# Altium footprint library station_de_charge_PcbLib.PcbLib: 26 footprints (part 2 of 2)
Each footprint in its own frame and in the unit in brackets; x right, y up, seen from the top. Pads: shape width x height; smd on the part's side, far side on the other; paste and mask are expansions set on the pad; w line width, h text height; cw(c..) or ccw(c..) is an arc to the next point about the centre after c.
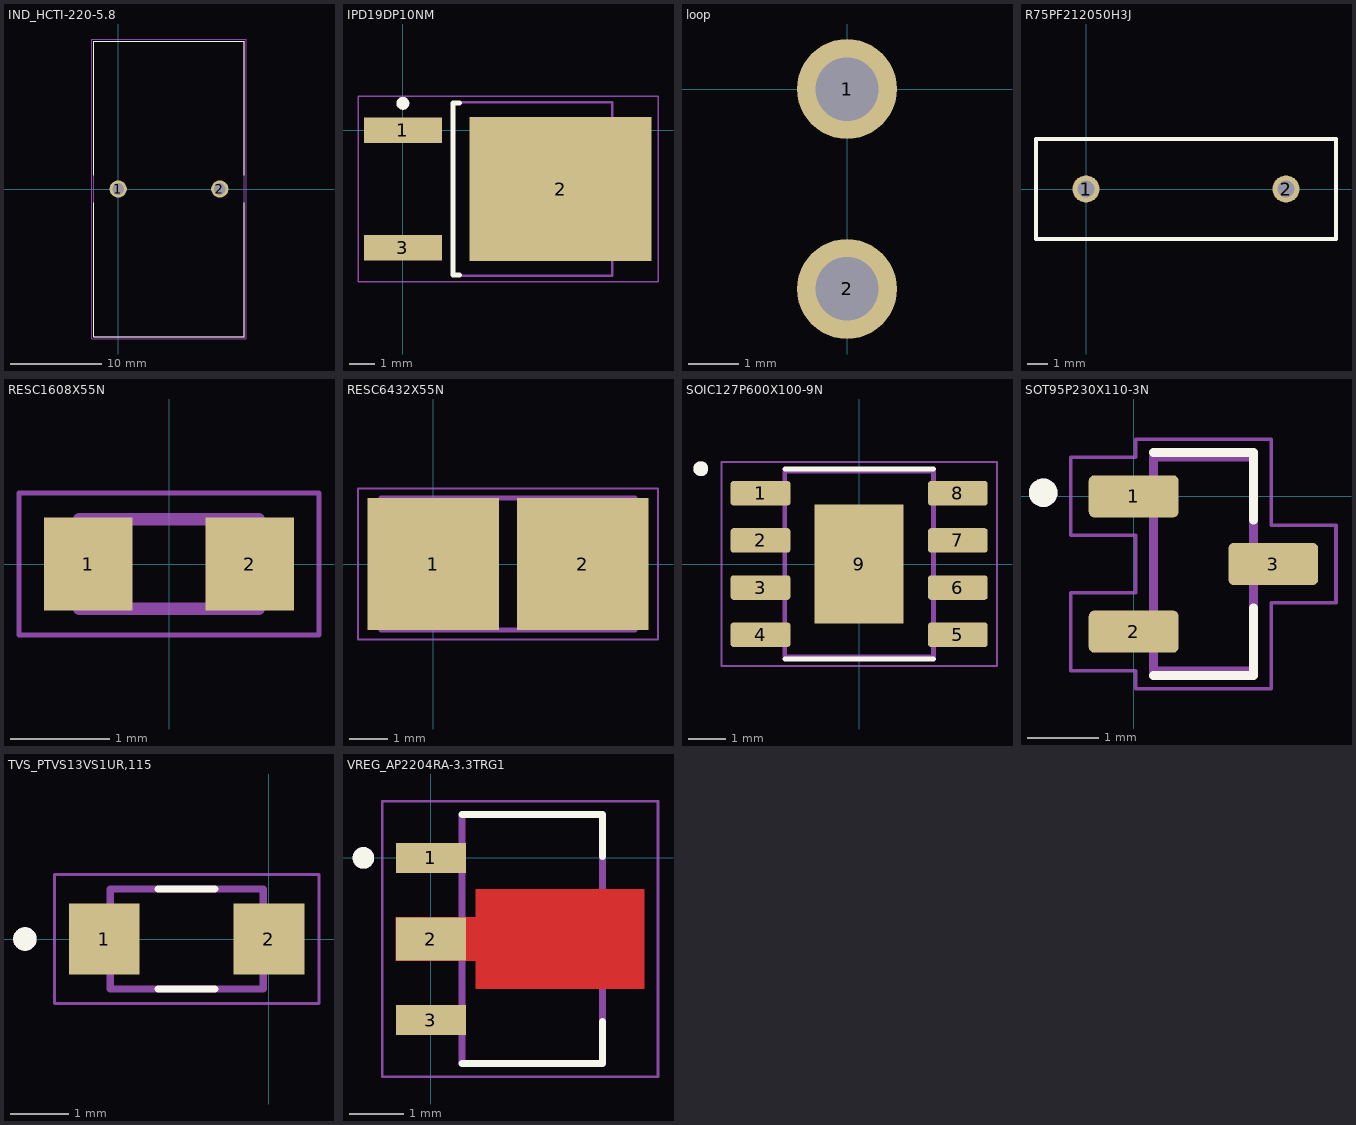
[diagram p1: the footprints below, top view; thin cyan lines are the x and y axes]

## IND_HCTI-220-5.8 [mil]
pads (2):
  round 75 hole 50: 1(0,0) 2(440,0)
Top Overlay:
  lines w5: -105,-60 -105,-640 545,-640 545,-60 ; -105,60 -105,640 545,640 545,60
Mechanical 13:
  lines w5: -105,-640 545,-640 545,640 -105,640 -105,-640
Mechanical 15:
  lines w1.97: -114.84,-649.84 554.84,-649.84 554.84,649.84 -114.84,649.84 -114.84,-649.84

## IPD19DP10NM [mm] "D-PAK, 3-Pads, Body 6,21x6,73mm (max), IPC Medium Density"
height 2.41
pads (3):
  rect 3.05x1 smd: 1(0,0) 3(0,-4.58)
  rect 7.1x5.6 smd: 2(6.15,-2.29)
Top Overlay:
  circle w0.25: c0,1.05 r0.125
  lines w0.2: 2.2,-5.64 1.95,-5.64 1.95,1.06 2.2,1.06
Mechanical 13:
  lines w0.1: 1.95,-5.665 1.95,1.085 8.17,1.085 8.17,-5.665 1.95,-5.665
Mechanical 15:
  lines w0.05: -1.75,-5.915 -1.75,1.335 9.95,1.335 9.95,-5.915 -1.75,-5.915
  lines w0.1: 3.6,-2.29 4.6,-2.29 ; 4.1,-2.79 4.1,-1.79
3D body: height 2.41, standoff 0, extent 1.95,-5.665 8.17,1.085

## loop [mm]
pads (2):
  round 2 hole 1.27: 1(0,0) 2(0,-4)

## R75PF212050H3J [mm]
pads (2):
  round 1.35 hole 0.85: 1(0,0) 2(10,0)
Top Overlay:
  lines w0.2: -2.5,-2.5 0,-2.5 10,-2.5 12.5,-2.5 12.5,2.5 10,2.5 0,2.5 -2.5,2.5 -2.5,-2.5

## RESC1608X55N [mm]
pads (2):
  rect 0.89x0.93 smd: 1(-0.814,0) 2(0.814,0)
Mechanical 13:
  lines w0.127: -0.9,-0.45 -0.9,0.45 0.9,0.45 0.9,-0.45 -0.9,-0.45
Mechanical 15:
  lines w0.05: -1.508,-0.715 -1.508,0.715 1.508,0.715 1.508,-0.715 -1.508,-0.715
3D body "SFR03EZPJ102.STEP": height 0.56, standoff 0.01, extent -0.8,-0.4 0.8,0.4

## RESC6432X55N [mm]
pads (2):
  rect 3.45x3.46 smd: 1(0,0) 2(3.912,0)
Mechanical 13:
  lines w0.127: -1.374,-1.73 -1.374,1.73 5.286,1.73 5.286,-1.73 -1.374,-1.73
Mechanical 15:
  lines w0.05: -1.975,-1.981 -1.975,1.981 5.887,1.981 5.887,-1.981 -1.975,-1.981
3D body "GMR100HTCFIR220.STEP": height 0.56, standoff 0.01, extent -1.244,-1.6 5.156,1.6

## SOIC127P600X100-9N [mm]
pads (9):
  rrect25% 1.61x0.66 smd: 1(-2.655,1.905) 2(-2.655,0.635) 3(-2.655,-0.635) 4(-2.655,-1.905) 5(2.655,-1.905) 6(2.655,-0.635) 7(2.655,0.635) 8(2.655,1.905)
  rect 2.4x3.2 smd paste-3: 9(0,0)
Top Overlay:
  circle w0.2: c-4.265,2.565 r0.1
  lines w0.127: -2,-2.555 2,-2.555 ; -2,2.555 2,2.555
Top Paste:
  region: 0.935,0.135 0.135,0.135 0.135,1.335 0.935,1.335
  region: 0.935,-1.335 0.135,-1.335 0.135,-0.135 0.935,-0.135
  region: -0.135,-1.335 -0.935,-1.335 -0.935,-0.135 -0.135,-0.135
  region: -0.135,0.135 -0.935,0.135 -0.935,1.335 -0.135,1.335
Mechanical 13:
  circle w0.2: c-4.265,2.565 r0.1
  lines w0.127: -2,-2.5 -2,2.5 2,2.5 2,-2.5 -2,-2.5
Mechanical 15:
  lines w0.05: -3.71,-2.75 -3.71,2.75 3.71,2.75 3.71,-2.75 -3.71,-2.75

## SOT95P230X110-3N [mm]
pads (3):
  rrect25% 1.26x0.59 smd: 1(0,0) 2(0,-1.9) 3(1.96,-0.95)
Top Overlay:
  circle w0.2: c-1.27,0.05 r0.1
  lines w0.127: 0.28,-2.515 1.68,-2.515 1.68,-1.565 ; 0.28,0.615 1.68,0.615 1.68,-0.335
Mechanical 13:
  circle w0.2: c-1.27,0.05 r0.1
  lines w0.127: 0.28,-2.45 1.68,-2.45 1.68,0.55 0.28,0.55 0.28,-2.45
Mechanical 15:
  lines w0.05: -0.88,-2.445 0.03,-2.445 0.03,-2.7 1.93,-2.7 1.93,-1.495 2.84,-1.495 2.84,-0.405 1.93,-0.405 1.93,0.8 0.03,0.8 0.03,0.545 -0.88,0.545 -0.88,-0.545 0.03,-0.545 0.03,-1.355 -0.88,-1.355 -0.88,-2.445
3D body "step_temp.STEP": height 1.1, standoff 0, extent -0.17,-2.4 2.13,0.5

## TVS_PTVS13VS1UR,115 [mm]
pads (2):
  rect 1.2x1.2 smd paste-0.05: 1(-2.8,0) 2(0,0)
Top Overlay:
  circle w0.2: c-4.15,0 r0.1
  lines w0.127: -1.88,-0.85 -0.92,-0.85 ; -1.88,0.85 -0.92,0.85
Mechanical 13:
  circle w0.2: c-4.15,0 r0.1
  lines w0.127: -2.7,-0.85 -0.1,-0.85 -0.1,0.85 -2.7,0.85 -2.7,-0.85
Mechanical 15:
  lines w0.05: -3.65,-1.1 0.85,-1.1 0.85,1.1 -3.65,1.1 -3.65,-1.1
3D body "step_temp.STEP": height 1.1, standoff 0, extent -3.15,-0.85 0.35,0.85

## VREG_AP2204RA-3.3TRG1 [mm]
pads (3):
  rect 1.3x0.55 smd: 1(0,0) 3(0,-3)
  rect 1.3x0.8 smd: 2(0,-1.5)
Top Layer:
  region: 3.95,-2.425 0.825,-2.425 0.825,-1.9 -0.65,-1.9 -0.65,-1.1 0.825,-1.1 0.825,-0.575 3.95,-0.575
Top Overlay:
  circle w0.2: c-1.25,0 r0.1
  lines w0.127: 0.575,-3.8 3.175,-3.8 3.175,-3.024 ; 0.575,0.8 3.175,0.8 3.175,0.024
Top Paste:
  region: 3.157,-2.6 1.617,-2.6 1.617,-0.4 3.157,-0.4
Top Solder:
  region: 4.05,-2.525 0.725,-2.525 0.725,-0.475 4.05,-0.475
Mechanical 13:
  circle w0.2: c-1.25,0 r0.1
  lines w0.127: 0.575,-3.8 3.175,-3.8 3.175,0.8 0.575,0.8 0.575,-3.8
Mechanical 15:
  lines w0.05: -0.9,-4.05 4.2,-4.05 4.2,1.05 -0.9,1.05 -0.9,-4.05